# EAGLE library part HEADER-2X5_1MM27 (library df4iah_connector)
Header 2X5 1.27mm 0.05"
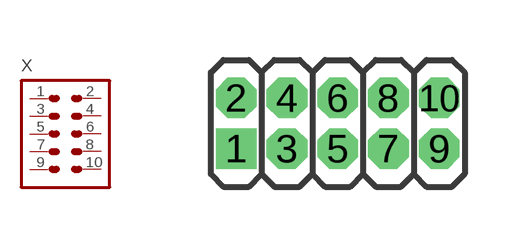
[diagram p20: symbol with the pads of 2X05_1MM27; footprint 2X05_1MM27]

Designator prefix X

## HEADER-2X5_1MM27  [2X05_1MM27]
1  1  pas
2  2  pas
3  3  pas
4  4  pas
5  5  pas
6  6  pas
7  7  pas
8  8  pas
9  9  pas
10  10  pas

## Footprint 2X05_1MM27 (pad centres in mm)
Header 2X5 1.27mm 0.05"
drill 0.508 pad 0.813 square: 1 -2.54,-0.635
drill 0.508 pad 0.813 octagon: 2 -2.54,0.635; 3 -1.27,-0.635; 4 -1.27,0.635; 5 0,-0.635; 6 0,0.635; 7 1.27,-0.635; 8 1.27,0.635; 9 2.54,-0.635; 10 2.54,0.635